# Altium footprint library LED_APHHS1005LZGCK-V.PcbLib: 1 footprints
Each footprint in its own frame and in the unit in brackets; x right, y up, seen from the top. Pads: shape width x height; smd on the part's side, far side on the other; paste and mask are expansions set on the pad; w line width, h text height; cw(c..) or ccw(c..) is an arc to the next point about the centre after c.
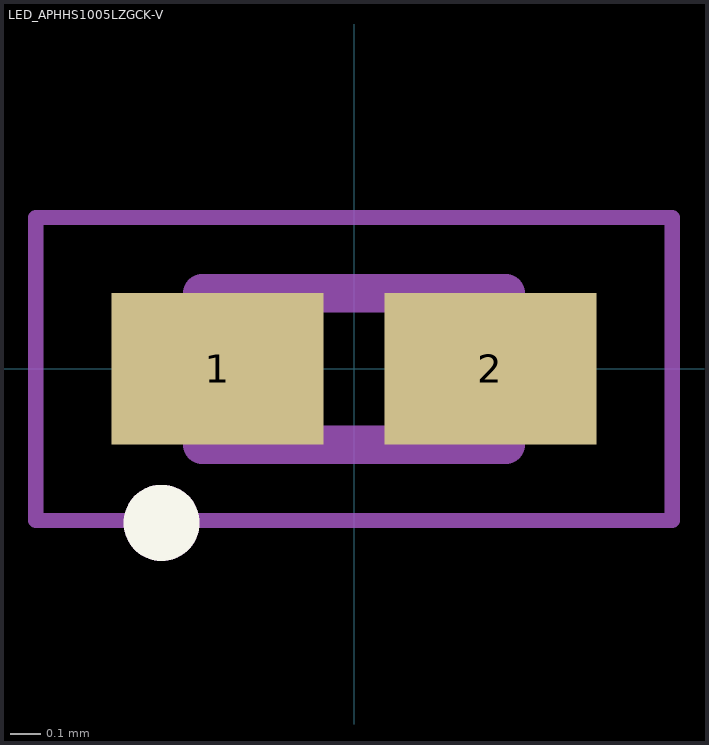
[diagram p0: the footprint, top view; thin cyan lines are the x and y axes]

## LED_APHHS1005LZGCK-V [mm]
height 0.25
pads (2):
  rect 0.7x0.5 smd mask+0.05: 1(-0.45,0) 2(0.45,0)
Top Overlay:
  circle w0.2: c-0.635,-0.508 r0.025
Mechanical 13:
  circle w0.2: c-0.635,-0.508 r0.025
  lines w0.127: -0.5,-0.25 0.5,-0.25 0.5,0.25 -0.5,0.25 -0.5,-0.25
Mechanical 15:
  lines w0.05: -1.05,-0.5 -1.05,0.5 1.05,0.5 1.05,-0.5 -1.05,-0.5
3D body "step_temp.STEP": height 0.5, standoff 0, extent -0.5,-0.25 0.5,0.25